# Altium schematic symbol library HOLE_NPTH.Schlib: 1 symbol
Pins are listed as number, name and electrical type; pins without a type are passive.

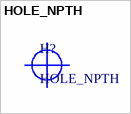
[diagram p0: symbol HOLE_NPTH]

## HOLE_NPTH
designator H?  (no BOM)